# Altium schematic symbol library CD4011BE.SchLib: 1 symbol
Pins are listed as number, name and electrical type; pins without a type are passive.

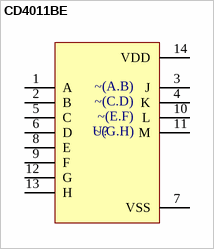
[diagram p0: symbol CD4011BE]

## CD4011BE
designator U?
MP: CD4011BE; Package: None; Value: *; Availability: Unavailable; Price: None
footprint DIP794W45P254L1969H508Q14
pins: 1 A, 2 B, 3 J, 4 K, 5 C, 6 D, 7 VSS (power), 8 E, 9 F, 10 L, 11 M, 12 G, 13 H, 14 VDD (power)
text: ~(A.B); ~(C.D); ~(E.F); ~(G.H)